# EAGLE library part HIROSE_DM3CS-SF (library borkedlabs-connectors)
DM3CS, Hinge, Push -Pull (no ejection mechanism), Top board mounting (Standard)
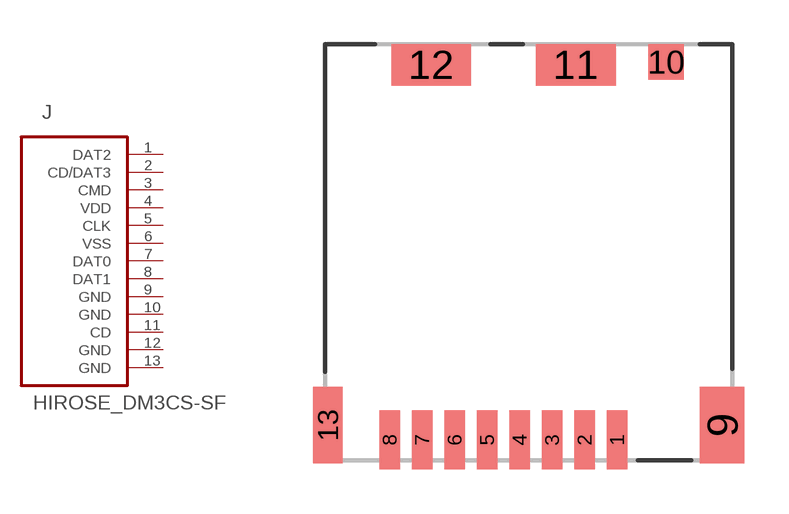
[diagram p4: symbol with the pads of HIROSE_DM3CS-SF; footprint HIROSE_DM3CS-SF]

Designator prefix J

## HIROSE_DM3CS-SF (MPN: DM3CS-SF; OC_FARNELL: 1764376; OC_NEWARK: 35R0581; PACKAGE: SMD - microSD; SUPPLIER: HIROSE)  [HIROSE_DM3CS-SF]
1  DAT2  pas
2  CD/DAT3  pas
3  CMD  pas
4  VDD  pas
5  CLK  pas
6  VSS  pas
7  DAT0  pas
8  DAT1  pas
9  GND  pas
10  GND  pas
11  CD  pas
12  GND  pas
13  GND  pas

## Footprint HIROSE_DM3CS-SF (pad centres in mm)
smd 0.7 x 2: 1 0,0; 2 -1.1,0; 3 -2.2,0; 4 -3.3,0; 5 -4.4,0; 6 -5.5,0; 7 -6.6,0; 8 -7.7,0
smd 1.5 x 2.6: 9 3.55,0.5
smd 1.2 x 1.2: 10 1.65,12.8
smd 2.7 x 1.4: 11 -1.4,12.7; 12 -6.3,12.7
smd 1 x 2.6: 13 -9.8,0.5